# Altium schematic symbol library Antenna.SchLib: 2 symbols
Pins are listed as number, name and electrical type; pins without a type are passive.

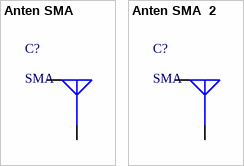
[diagram p0: symbols Anten SMA to Anten SMA  2]

## Anten SMA
designator C?, comment SMA
SMA Anten Connector; ComponentLink1Description: Özdisan; ComponentLink1URL: https://www.ozdisan.com/konnektor-ve-baglanti-elemanlari/koaksiyel-konnektorler/sma-konnektorler/CONSMA002-G
footprint CONSMA002-G (SMA Female Right Angle Through Hole Mount Connector)
pins: G, S

## Anten SMA  2
designator C?, comment SMA
SMA Anten Connector; ComponentLink1Description: DigiKey; ComponentLink1URL: https://www.digikey.com/en/products/detail/amphenol-rf/132134-11/3088380
footprint 132134-11 SMA ANTEN (CONN SMA JACK STR 50 OHM PCB)
pins: G, S